# Altium footprint library YR1B10KCC.PcbLib: 1 footprints
Each footprint in its own frame and in the unit in brackets; x right, y up, seen from the top. Pads: shape width x height; smd on the part's side, far side on the other; paste and mask are expansions set on the pad; w line width, h text height; cw(c..) or ccw(c..) is an arc to the next point about the centre after c.
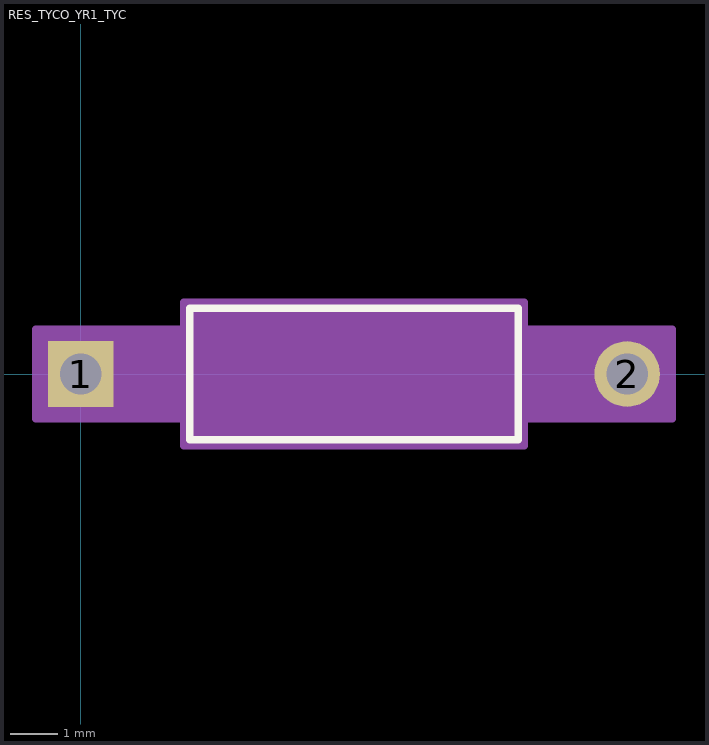
[diagram p0: the footprint, top view; thin cyan lines are the x and y axes]

## RES_TYCO_YR1_TYC [mil]
pads (2):
  rect 54x54 / inner round 60 / far side rect 54x54 hole 34 paste-27 mask+0: 1(0,0)
  round 54 / inner round 60 / far side round 54 hole 34 paste-27 mask+0: 2(449,0)
Top Overlay:
  lines w6: 89.5,-54 359.5,-54 359.5,54 89.5,54 89.5,-54
Mechanical 13:
  lines w1: 0,0 94.5,0 ; 354.5,0 449,0 ; 94.5,-49 354.5,-49 354.5,49 94.5,49 94.5,-49
Mechanical 15:
  region: 84.5,-37 -37,-37 -37,37 84.5,37 84.5,59 364.5,59 364.5,37 486,37 486,-37 364.5,-37 364.5,-59 84.5,-59
  lines w6: -37,-37 -37,37 84.5,37 84.5,59 364.5,59 364.5,37 486,37 486,-37 364.5,-37 364.5,-59 84.5,-59 84.5,-37 -37,-37
3D body "RES_TYCO_YR1_TYC.step": height 98.02, standoff -100, extent -12.01,-48.64 460.98,48.64